# Altium footprint library PcbLib1.PcbLib: 7 footprints
Each footprint in its own frame and in the unit in brackets; x right, y up, seen from the top. Pads: shape width x height; smd on the part's side, far side on the other; paste and mask are expansions set on the pad; w line width, h text height; cw(c..) or ccw(c..) is an arc to the next point about the centre after c.
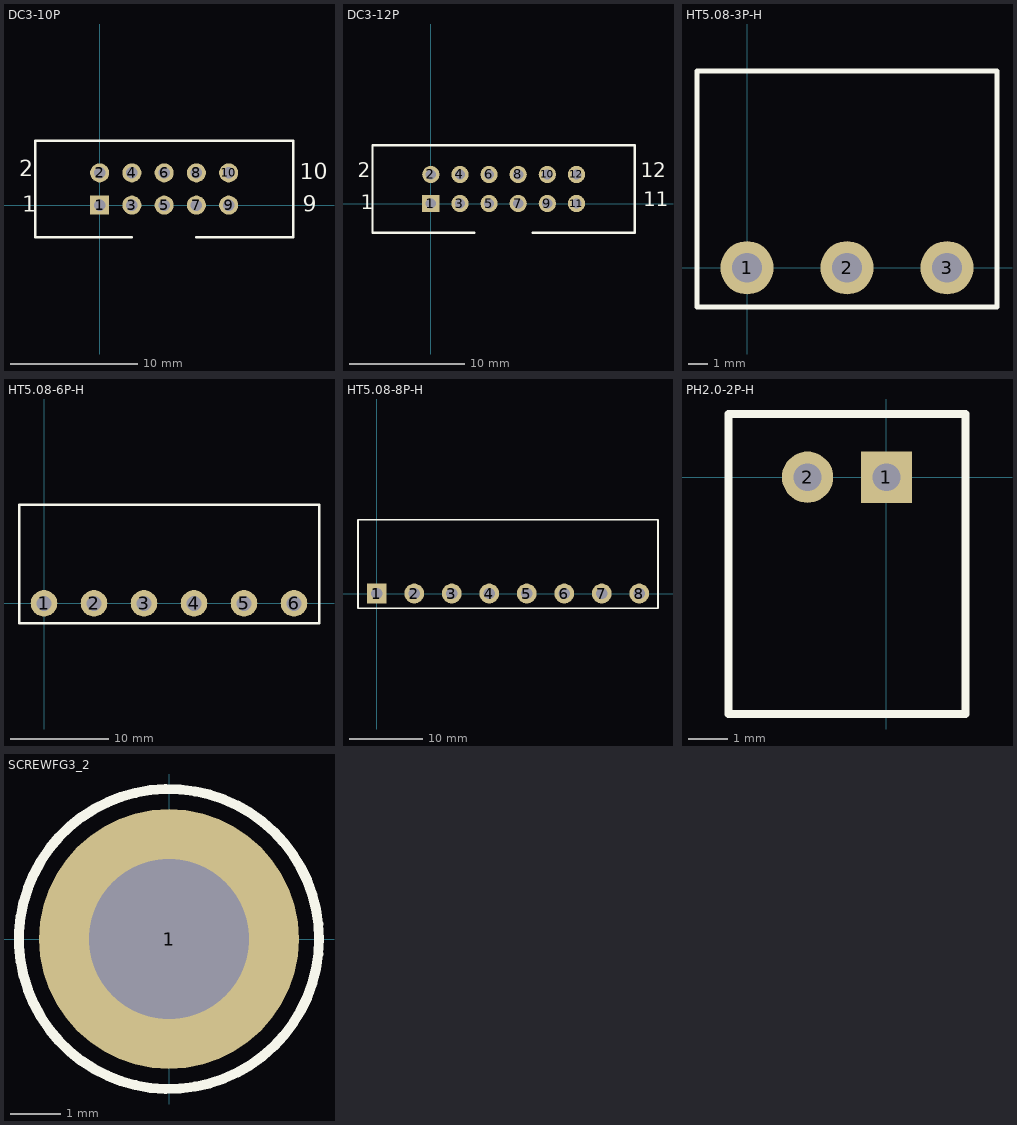
[diagram p0: the footprints below, top view; thin cyan lines are the x and y axes]

## DC3-10P [mm] "Connector; Header; 10x2 Position"
height 20
pads (10):
  rect 1.5x1.5 hole 0.9: 1(0,0)
  round 1.5 hole 0.9: 2(0,2.54) 3(2.54,0) 4(2.54,2.54) 5(5.08,0) 6(5.08,2.54) 7(7.62,0) 8(7.62,2.54) 9(10.16,0) 10(10.16,2.54)
Top Overlay:
  lines w0.2: 2.54,-2.54 -5.08,-2.54 -5.08,5.08 15.24,5.08 15.24,-2.54 7.62,-2.54
  text "2" at -6.35,2.286 h1.27
  text "1" at -6.096,-0.508 h1.27
  text "9" at 16.002,-0.508 h1.27
  text "10" at 15.748,2.032 h1.27
3D body: height 16, standoff 0, extent -5.08,-2.54 15.24,5.08

## DC3-12P [mm] "Connector; Header; 10x2 Position"
height 20
pads (12):
  rect 1.5x1.5 hole 0.9: 1(0,0)
  round 1.5 hole 0.9: 2(0,2.54) 3(2.54,0) 4(2.54,2.54) 5(5.08,0) 6(5.08,2.54) 7(7.62,0) 8(7.62,2.54) 9(10.16,0) 10(10.16,2.54) 11(12.7,0) 12(12.7,2.54)
Top Overlay:
  lines w0.2: 3.81,-2.54 -5.08,-2.54 -5.08,5.08 17.78,5.08 17.78,-2.54 8.89,-2.54
  text "2" at -6.35,2.286 h1.27
  text "1" at -6.096,-0.508 h1.27
  text "11" at 18.542,-0.254 h1.27
  text "12" at 18.288,2.286 h1.27
3D body: height 16, standoff 0, extent -5.08,-2.54 17.78,5.08

## HT5.08-3P-H [mm]
height 12
pads (3):
  round 2.7 hole 1.5: 1(0,0) 2(5.08,0) 3(10.16,0)
Top Overlay:
  lines w0.254: -2.54,-2 12.7,-2 12.7,10 -2.54,10 -2.54,-2
3D body: height 12, standoff 0, extent -2.54,-2.032 12.7,10.033

## HT5.08-6P-H [mm]
height 12
pads (6):
  round 2.7 hole 1.5: 1(0,0) 2(5.08,0) 3(10.16,0) 4(15.24,0) 5(20.32,0) 6(25.4,0)
Top Overlay:
  lines w0.254: -2.54,-2 27.94,-2 27.94,10 -2.54,10 -2.54,-2
3D body: height 12, standoff 0, extent -2.54,-2.032 27.94,10.033

## HT5.08-8P-H [mm]
pads (8):
  rect 2.7x2.7 hole 1.5: 1(0,0)
  round 2.7 hole 1.5: 2(5.08,0) 3(10.16,0) 4(15.24,0) 5(20.32,0) 6(25.4,0) 7(30.48,0) 8(35.56,0)
Top Overlay:
  lines w0.254: -2.54,-2 38.1,-2 38.1,10 -2.54,10 -2.54,-2
3D body: height 12, standoff 0, extent -2.54,-2.032 38.1,10.033

## PH2.0-2P-H [mm] "Connector; Header; 2 Position"
height 4.7
pads (2):
  rect 1.3x1.3 hole 0.7: 1(0,0)
  round 1.3 hole 0.7: 2(-2,0)
Top Overlay:
  lines w0.2: -4,-6 -4,1.6 2,1.6 2,-6 -4,-6
3D body: height 5, standoff 0, extent -4,-6 2,1.6

## SCREWFG3_2 [mm]
pads (1):
  round 5.2 hole 3.2: 1(0,0)
Top Overlay:
  circle w0.2: c0,0 r3
Bottom Overlay:
  circle w0.2: c0,0 r3